# Altium footprint library Diode_SMD.PcbLib: 76 footprints (part 1 of 5)
Each footprint in its own frame and in the unit in brackets; x right, y up, seen from the top. Pads: shape width x height; smd on the part's side, far side on the other; paste and mask are expansions set on the pad; w line width, h text height; cw(c..) or ccw(c..) is an arc to the next point about the centre after c.
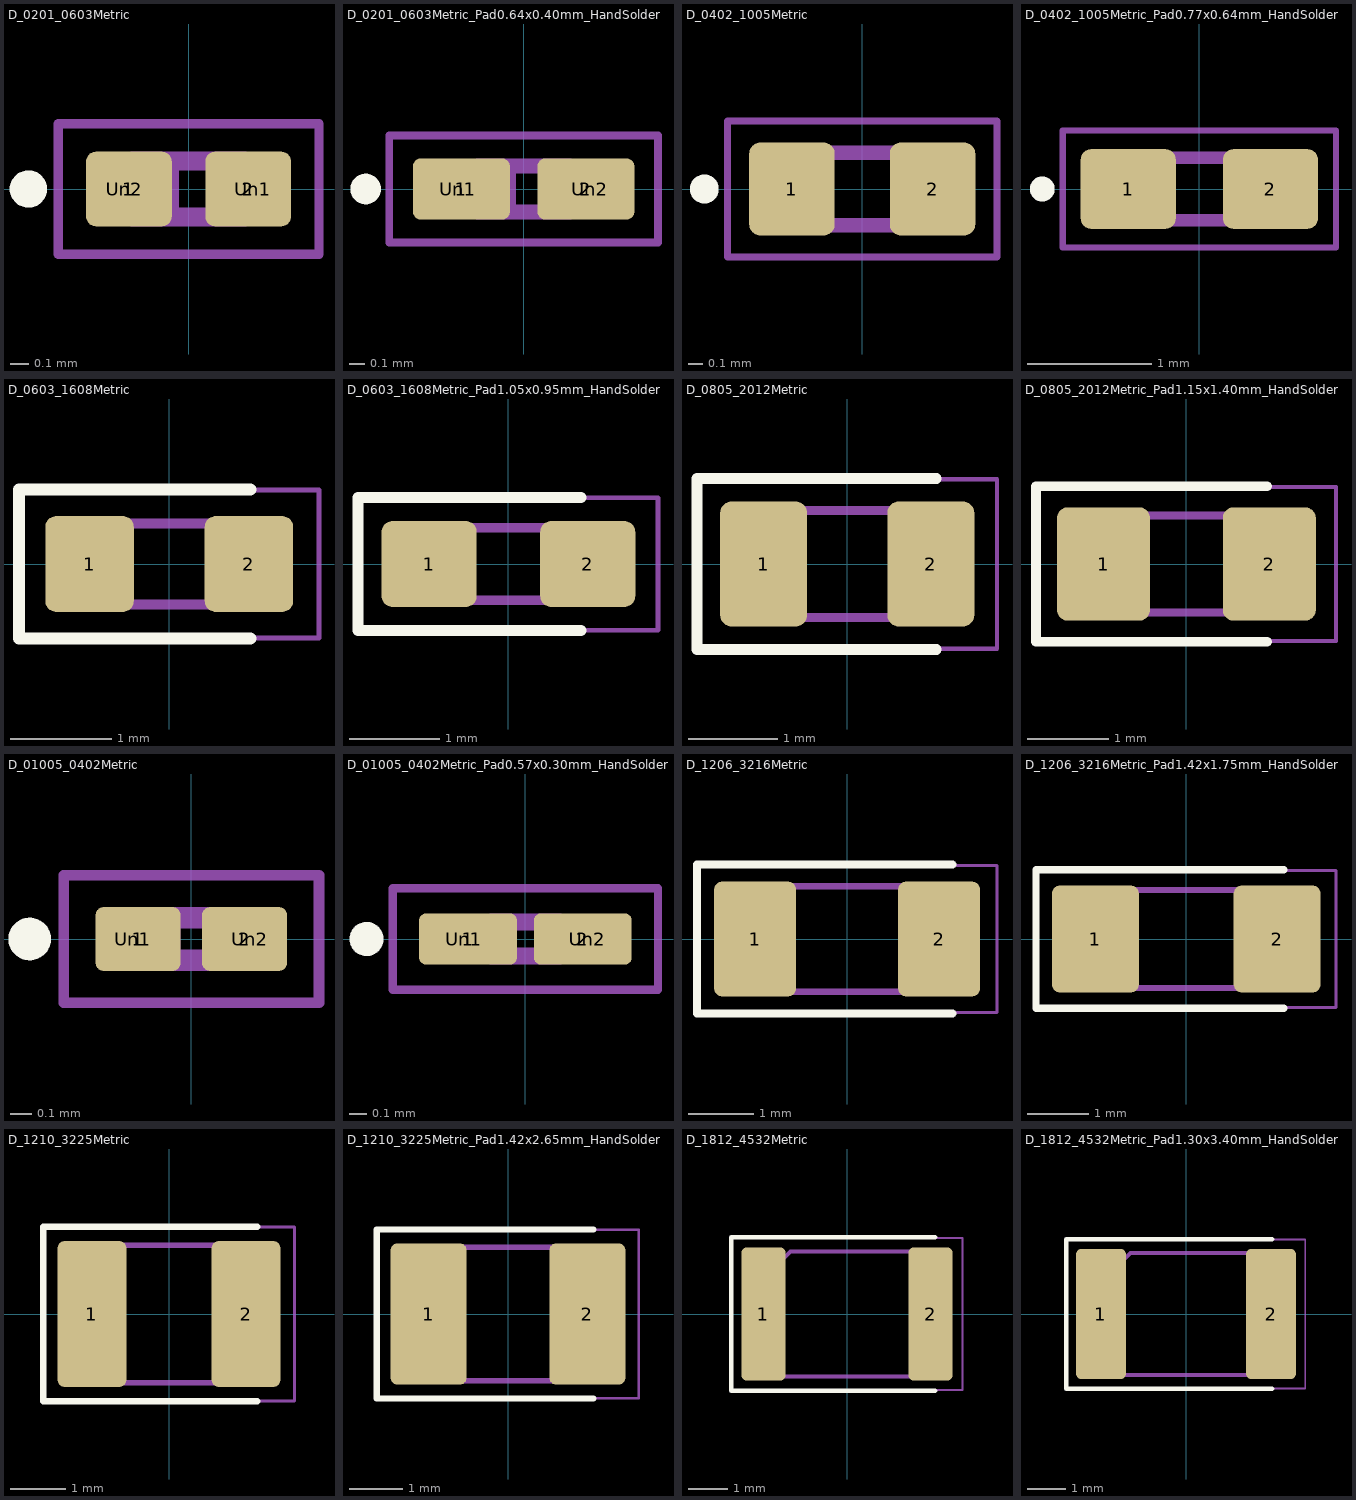
[diagram p0: the footprints below, top view; thin cyan lines are the x and y axes]

## D_0201_0603Metric [mm]
pads (4):
  rrect25% 0.46x0.4 smd: 1(-0.32,0) 2(0.32,0)
  rrect25% 0.318x0.36 on Top Paste: Un1(0.345,0) Un2(-0.345,0)
F.SilkS:
  circle w0.1: c-0.86,0 r0.05
F.CrtYd:
  lines w0.05: -0.7,-0.35 0.7,-0.35 0.7,0.35 -0.7,0.35 -0.7,-0.35
F.Fab:
  lines w0.1: -0.2,-0.15 -0.2,0.15 ; -0.1,-0.15 -0.1,0.15 ; -0.3,-0.15 -0.3,0.15 0.3,0.15 0.3,-0.15 -0.3,-0.15
  text "'.Designator'" at -1.014,0.467 h0.25

## D_0201_0603Metric_Pad0.64x0.40mm_HandSolder [mm]
pads (4):
  rrect25% 0.635x0.4 smd: 1(-0.407,0) 2(0.407,0)
  rrect25% 0.458x0.36 on Top Paste: Un1(-0.433,0) Un2(0.433,0)
F.SilkS:
  circle w0.1: c-1.035,0 r0.05
F.CrtYd:
  lines w0.05: -0.88,-0.35 -0.88,0.35 0.88,0.35 0.88,-0.35 -0.88,-0.35
F.Fab:
  lines w0.1: -0.2,-0.15 -0.2,0.15 ; -0.1,-0.15 -0.1,0.15 ; -0.3,-0.15 0.3,-0.15 0.3,0.15 -0.3,0.15 -0.3,-0.15
  text "'.Designator'" at -1.014,0.467 h0.25

## D_0402_1005Metric [mm]
pads (2):
  rrect25% 0.59x0.64 smd: 1(-0.485,0) 2(0.485,0)
F.SilkS:
  circle w0.1: c-1.09,0 r0.05
F.CrtYd:
  lines w0.05: -0.93,-0.47 0.93,-0.47 0.93,0.47 -0.93,0.47 -0.93,-0.47
F.Fab:
  lines w0.1: -0.4,-0.25 -0.4,0.25 ; -0.3,-0.25 -0.3,0.25 ; -0.5,-0.25 0.5,-0.25 0.5,0.25 -0.5,0.25 -0.5,-0.25
  text "'.Designator'" at -1.014,-0.213 h0.25

## D_0402_1005Metric_Pad0.77x0.64mm_HandSolder [mm]
pads (2):
  rrect25% 0.765x0.64 smd: 1(-0.573,0) 2(0.573,0)
F.SilkS:
  circle w0.1: c-1.265,0 r0.05
F.CrtYd:
  lines w0.05: -1.1,-0.47 -1.1,0.47 1.1,0.47 1.1,-0.47 -1.1,-0.47
F.Fab:
  lines w0.1: -0.4,-0.25 -0.4,0.25 ; -0.3,-0.25 -0.3,0.25 ; -0.5,-0.25 0.5,-0.25 0.5,0.25 -0.5,0.25 -0.5,-0.25
  text "'.Designator'" at -1.014,-0.213 h0.25

## D_0603_1608Metric [mm]
pads (2):
  rrect25% 0.875x0.95 smd: 1(-0.787,0) 2(0.787,0)
F.SilkS:
  lines w0.12: 0.8,-0.735 -1.485,-0.735 -1.485,0.735 0.8,0.735
F.CrtYd:
  lines w0.05: -1.48,-0.73 -1.48,0.73 1.48,0.73 1.48,-0.73 -1.48,-0.73
F.Fab:
  lines w0.1: -0.8,-0.4 -0.8,0.1 -0.5,0.4 0.8,0.4 0.8,-0.4 -0.8,-0.4
  text "'.Designator'" at -1.619,-0.336 h0.4
3D body "D_0603_1608Metric.step": height 0.66, standoff 0, extent -0.8,-0.435 0.8,0.435

## D_0603_1608Metric_Pad1.05x0.95mm_HandSolder [mm]
pads (2):
  rrect25% 1.05x0.95 smd: 1(-0.875,0) 2(0.875,0)
F.SilkS:
  lines w0.12: 0.8,-0.735 -1.66,-0.735 -1.66,0.735 0.8,0.735
F.CrtYd:
  lines w0.05: -1.65,-0.73 1.65,-0.73 1.65,0.73 -1.65,0.73 -1.65,-0.73
F.Fab:
  lines w0.1: -0.8,-0.4 0.8,-0.4 0.8,0.4 -0.5,0.4 -0.8,0.1 -0.8,-0.4
  text "'.Designator'" at -1.619,-0.336 h0.4
3D body "D_0603_1608Metric.step": height 0.66, standoff 0, extent -0.8,-0.435 0.8,0.435

## D_0805_2012Metric [mm]
pads (2):
  rrect25% 0.975x1.4 smd: 1(-0.937,0) 2(0.937,0)
F.SilkS:
  lines w0.12: 1,-0.96 -1.685,-0.96 -1.685,0.96 1,0.96
F.CrtYd:
  lines w0.05: -1.68,-0.95 -1.68,0.95 1.68,0.95 1.68,-0.95 -1.68,-0.95
F.Fab:
  lines w0.1: -1,-0.6 -1,0.3 -0.7,0.6 1,0.6 1,-0.6 -1,-0.6
  text "'.Designator'" at -2.028,-0.425 h0.5
3D body "D_0805_2012Metric.step": height 0.8, standoff 0, extent -1,-0.635 1,0.635

## D_0805_2012Metric_Pad1.15x1.40mm_HandSolder [mm]
pads (2):
  rrect22% 1.15x1.4 smd: 1(-1.025,0) 2(1.025,0)
F.SilkS:
  lines w0.12: 1,-0.96 -1.86,-0.96 -1.86,0.96 1,0.96
F.CrtYd:
  lines w0.05: -1.85,-0.95 -1.85,0.95 1.85,0.95 1.85,-0.95 -1.85,-0.95
F.Fab:
  lines w0.1: -1,-0.6 -1,0.3 -0.7,0.6 1,0.6 1,-0.6 -1,-0.6
  text "'.Designator'" at -2.028,-0.425 h0.5
3D body "D_0805_2012Metric.step": height 0.8, standoff 0, extent -1,-0.635 1,0.635

## D_01005_0402Metric [mm]
pads (4):
  rrect25% 0.4x0.3 smd: 1(-0.25,0) 2(0.25,0)
  rrect25% 0.27x0.27 on Top Paste: Un1(-0.275,0) Un2(0.275,0)
F.SilkS:
  circle w0.1: c-0.76,0 r0.05
F.CrtYd:
  lines w0.05: -0.6,-0.3 -0.6,0.3 0.6,0.3 0.6,-0.3 -0.6,-0.3
F.Fab:
  lines w0.1: -0.1,-0.1 -0.1,0.1 ; -0.2,-0.1 0.2,-0.1 0.2,0.1 -0.2,0.1 -0.2,-0.1
  text "'.Designator'" at -1.014,0.407 h0.25

## D_01005_0402Metric_Pad0.57x0.30mm_HandSolder [mm]
pads (4):
  rrect25% 0.575x0.3 smd: 1(-0.337,0) 2(0.337,0)
  rrect25% 0.41x0.27 on Top Paste: Un1(-0.363,0) Un2(0.363,0)
F.SilkS:
  circle w0.1: c-0.935,0 r0.05
F.CrtYd:
  lines w0.05: -0.78,-0.3 0.78,-0.3 0.78,0.3 -0.78,0.3 -0.78,-0.3
F.Fab:
  lines w0.1: -0.1,-0.1 -0.1,0.1 ; -0.2,-0.1 0.2,-0.1 0.2,0.1 -0.2,0.1 -0.2,-0.1
  text "'.Designator'" at -1.014,0.407 h0.25

## D_1206_3216Metric [mm]
pads (2):
  rrect20% 1.25x1.75 smd: 1(-1.4,0) 2(1.4,0)
F.SilkS:
  lines w0.12: 1.6,-1.135 -2.285,-1.135 -2.285,1.135 1.6,1.135
F.CrtYd:
  lines w0.05: -2.28,-1.12 -2.28,1.12 2.28,1.12 2.28,-1.12 -2.28,-1.12
F.Fab:
  lines w0.1: -1.6,-0.8 -1.6,0.4 -1.2,0.8 1.6,0.8 1.6,-0.8 -1.6,-0.8
  text "'.Designator'" at -3.237,-0.672 h0.8
3D body "D_1206_3216Metric.step": height 0.96, standoff 0, extent -1.7,-0.935 1.7,0.935

## D_1206_3216Metric_Pad1.42x1.75mm_HandSolder [mm]
pads (2):
  rrect18% 1.425x1.75 smd: 1(-1.488,0) 2(1.488,0)
F.SilkS:
  lines w0.12: 1.6,-1.135 -2.46,-1.135 -2.46,1.135 1.6,1.135
F.CrtYd:
  lines w0.05: -2.45,-1.12 -2.45,1.12 2.45,1.12 2.45,-1.12 -2.45,-1.12
F.Fab:
  lines w0.1: -1.6,-0.8 1.6,-0.8 1.6,0.8 -1.2,0.8 -1.6,0.4 -1.6,-0.8
  text "'.Designator'" at -3.237,-0.672 h0.8
3D body "D_1206_3216Metric.step": height 0.96, standoff 0, extent -1.7,-0.935 1.7,0.935

## D_1210_3225Metric [mm]
pads (2):
  rrect20% 1.25x2.65 smd: 1(-1.4,0) 2(1.4,0)
F.SilkS:
  lines w0.12: 1.6,-1.585 -2.285,-1.585 -2.285,1.585 1.6,1.585
F.CrtYd:
  lines w0.05: -2.28,-1.58 -2.28,1.58 2.28,1.58 2.28,-1.58 -2.28,-1.58
F.Fab:
  lines w0.1: -1.6,-1.25 1.6,-1.25 1.6,1.25 -0.975,1.25 -1.6,0.625 -1.6,-1.25
  text "'.Designator'" at -3.237,-0.672 h0.8

## D_1210_3225Metric_Pad1.42x2.65mm_HandSolder [mm]
pads (2):
  rrect18% 1.425x2.65 smd: 1(-1.488,0) 2(1.488,0)
F.SilkS:
  lines w0.12: 1.6,-1.585 -2.46,-1.585 -2.46,1.585 1.6,1.585
F.CrtYd:
  lines w0.05: -2.45,-1.58 -2.45,1.58 2.45,1.58 2.45,-1.58 -2.45,-1.58
F.Fab:
  lines w0.1: -1.6,-1.25 1.6,-1.25 1.6,1.25 -0.975,1.25 -1.6,0.625 -1.6,-1.25
  text "'.Designator'" at -3.237,-0.672 h0.8

## D_1812_4532Metric [mm]
pads (2):
  rrect22% 1.125x3.4 smd: 1(-2.137,0) 2(2.137,0)
F.SilkS:
  lines w0.12: 2.25,-1.96 -2.96,-1.96 -2.96,1.96 2.25,1.96
F.CrtYd:
  lines w0.05: -2.95,-1.95 -2.95,1.95 2.95,1.95 2.95,-1.95 -2.95,-1.95
F.Fab:
  lines w0.1: -2.25,-1.6 -2.25,0.8 -1.45,1.6 2.25,1.6 2.25,-1.6 -2.25,-1.6
  text "'.Designator'" at -4.047,-0.84 h1

## D_1812_4532Metric_Pad1.30x3.40mm_HandSolder [mm]
pads (2):
  rrect19% 1.3x3.4 smd: 1(-2.225,0) 2(2.225,0)
F.SilkS:
  lines w0.12: 2.25,-1.96 -3.135,-1.96 -3.135,1.96 2.25,1.96
F.CrtYd:
  lines w0.05: -3.12,-1.95 -3.12,1.95 3.12,1.95 3.12,-1.95 -3.12,-1.95
F.Fab:
  lines w0.1: -2.25,-1.6 -2.25,0.8 -1.45,1.6 2.25,1.6 2.25,-1.6 -2.25,-1.6
  text "'.Designator'" at -4.047,-0.84 h1